# Altium schematic symbol library ECULIB.SchLib: 3 symbols
Pins are listed as number, name and electrical type; pins without a type are passive.

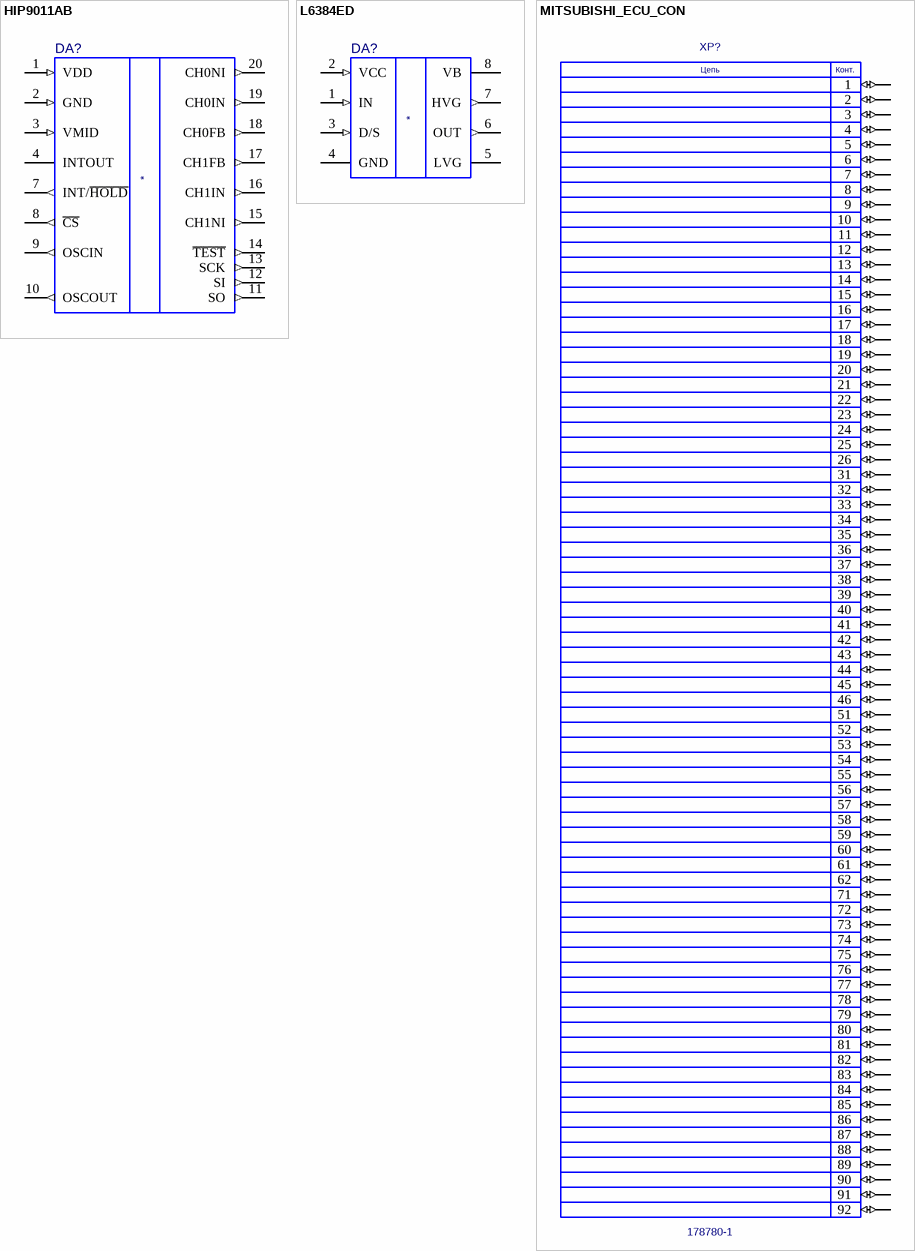
[diagram p0: symbols HIP9011AB to MITSUBISHI_ECU_CON]

## HIP9011AB
designator DA?
footprint SOIC-20 (JEDEC MS-013-AC)
pins: 1 VDD (in), 2 GND (in), 3 VMID (in), 4 INTOUT (power), 7 INT/~{HOLD} (out), 8 ~{CS} (out), 9 OSCIN (out), 10 OSCOUT (out), 11 SO (out), 12 SI (out), 13 SCK (out), 14 ~{TEST} (out), 15 CH1NI (out), 16 CH1IN (out), 17 CH1FB (out), 18 CH0FB (out), 19 CH0IN (out), 20 CH0NI (out)

## L6384ED
designator DA?
footprint SOIC8 JEDEC
pins: 1 IN (in), 2 VCC (in), 3 D/S (in), 4 GND (power), 5 LVG (power), 6 OUT (out), 7 HVG (out), 8 VB (power)

## MITSUBISHI_ECU_CON
designator XP?, comment 178780-1
TE 178780-1; Value: *
footprint MITSUBISHI_ECU_CON
pins: 1 (io), 2 (io), 3 (io), 4 (io), 5 (io), 6 (io), 7 (io), 8 (io), 9 (io), 10 (io), 11 (io), 12 (io), 13 (io), 14 (io), 15 (io), 16 (io), 17 (io), 18 (io), 19 (io), 20 (io), 21 (io), 22 (io), 23 (io), 24 (io), 25 (io), 26 (io), 31 (io), 32 (io), 33 (io), 34 (io), 35 (io), 36 (io), 37 (io), 38 (io), 39 (io), 40 (io), 41 (io), 42 (io), 43 (io), 44 (io), 45 (io), 46 (io), 51 (io), 52 (io), 53 (io), 54 (io), 55 (io), 56 (io), 57 (io), 58 (io), 59 (io), 60 (io), 61 (io), 62 (io), 71 (io), 72 (io), 73 (io), 74 (io), 75 (io), 76 (io), 77 (io), 78 (io), 79 (io), 80 (io), 81 (io), 82 (io), 83 (io), 84 (io), 85 (io), 86 (io), 87 (io), 88 (io), 89 (io), 90 (io), 91 (io), 92 (io)
text: Цепь; Конт.